# EAGLE library part MAX11645 (library PassTransistor)
MAX11644: I2C 12-Bit ADC Specifications: Manufacturer: Maxim Integrated Number of Bits: 12 Samping Rate (Per Second): 94.4k Number of Inputs: 1,2 Data Inteface: I2C Supply Voltage: 4.5V~5.5V Internal Reference: 4.096V Datasheet: MAX11644-45 <https://datasheets.maximintegrated.com/en/ds/MAX11644-MAX11645.pdf> Mouser Part #: 700-MAX11644EUA+ <https://www.mouser.com/ProductDetail/Maxim-Integrated/MAX11644EUA%2b?qs=sGAEpiMZZMvTvDTV69d2QoFZUXoSN7HGTKKUvUUMoG0%3d>
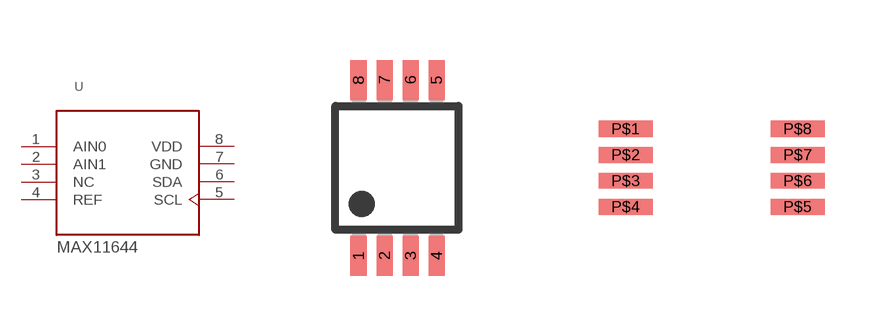
[diagram p4: symbol with the pads of DGK_S-PDSO-G8; footprints DGK_S-PDSO-G8, UMAX8]

Designator prefix U

## MAX11645  [DGK_S-PDSO-G8]
1  AIN0  in
2  AIN1  in
3  NC  nc
4  REF  in
5  SCL
6  SDA
7  GND  pwr
8  VDD  pwr

## MAX11645UMAX8  [UMAX8]
P$1  AIN0  in
P$2  AIN1  in
P$3  NC  nc
P$4  REF  in
P$5  SCL
P$6  SDA
P$7  GND  pwr
P$8  VDD  pwr

## Footprint DGK_S-PDSO-G8 (pad centres in mm)
8-Pin MSOP (DGK) Package Source: DGK (S-PDSO-G8) <http://www.ti.com/lit/ml/mpds028d/mpds028d.pdf>
smd 0.4 x 1: 1 -0.975,-2.2; 2 -0.325,-2.2; 3 0.325,-2.2; 4 0.975,-2.2; 5 0.975,2.2; 6 0.325,2.2; 7 -0.325,2.2; 8 -0.975,2.2

## Footprint UMAX8 (pad centres in mm)
smd 1.35 x 0.4: P$1 -2.15,0.975; P$2 -2.15,0.325; P$3 -2.15,-0.325; P$4 -2.15,-0.975; P$5 2.15,-0.975; P$6 2.15,-0.325; P$7 2.15,0.325; P$8 2.15,0.975